# EAGLE library part N-P-MOS (library MyComponents)
The N & P-Channel MOSFET
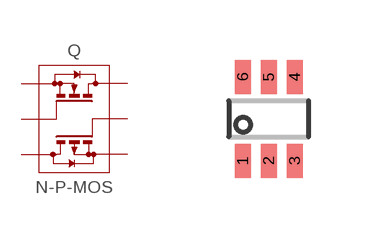
[diagram p15: symbol with the pads of SC70-6; footprint SC70-6]

Designator prefix Q

## N-P-MOS (MOUSER: 512-FDG6332C_F085)  [SC70-6]
1  1  pas
2  2  pas
3  3  pas
4  4  pas
5  5  pas
6  6  pas

## Footprint SC70-6 (pad centres in mm)
SMT SC70-5 SOT353 - Philips Semiconductors Source: http://www.semiconductors.philips.com/acrobat_download/datasheets/74HC_HCT1G66_3.pdf
smd 0.4 x 0.85: 1 -0.65,-1.05; 2 0,-1.05; 3 0.65,-1.05; 4 0.65,1.05; 5 0,1.05; 6 -0.65,1.05